# Altium integrated library LIB2022 - Optoelectronics.IntLib: 3 symbols
Pins are listed as number, name and electrical type; pins without a type are passive.

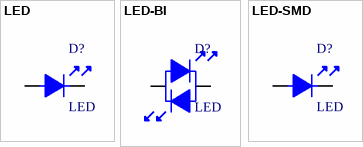
[diagram p0: symbols LED to LED-SMD]

## LED
designator D?
footprint LED-5MM
footprint LED-3MM
pins: 1, 2

## LED-BI
designator D?, comment LED
footprint LED-5MM - BI
pins: 1, 2

## LED-SMD
designator D?, comment LED
footprint LED-0805
pins: 1, 2